# Altium integrated library Lattice FPGA MachXO2.IntLib: 444 symbols (part 34 of 39)
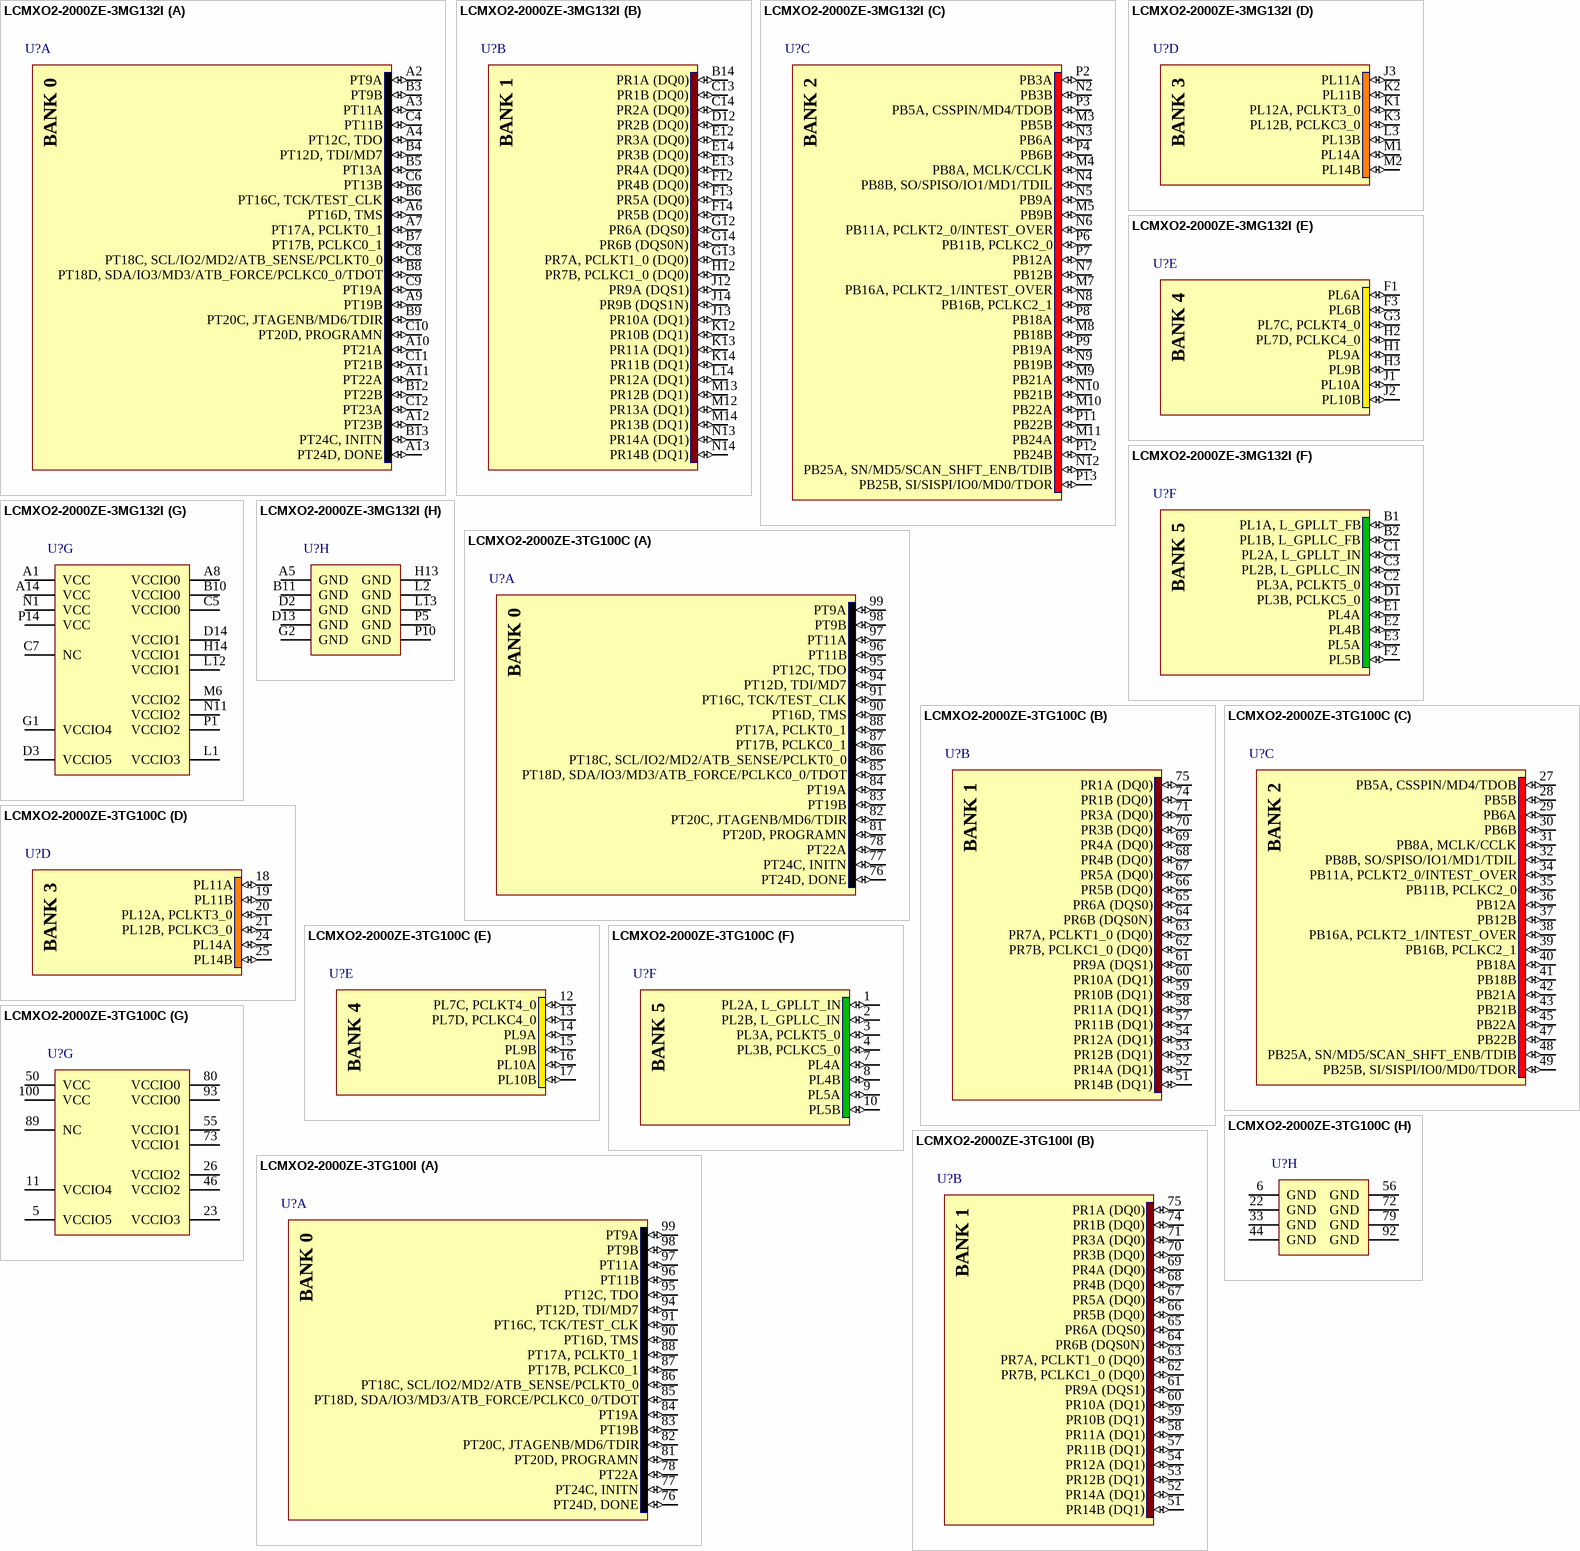
[diagram p439: symbols LCMXO2-2000ZE-3MG132I to LCMXO2-2000ZE-3TG100I]

## LCMXO2-2000ZE-3MG132I
designator U?
MachXO2 Ultra Low Power CPLD with 2112 LUTs, 1.2V, 132-pin csBGA, Speed Grade-3, Industrial Grade, Halogen Free (RoHS); DatasheetVersion: ver01.5, Aug-2011; PackageVersion: ver02.8, Jul-2011; PackageReference: csBGA132; PackageDescription: 132-Ball Chip Scale Ball Grid Array (csBGA132); ComponentLink1Description: Manufacturer URL; ComponentLink1URL: http://www.latticesemi.com/; ComponentLink2Description: Datasheet; ComponentLink2URL: http://www.latticesemi.com/documents/DS1035.pdf; ComponentLink3Description: Package Specification; ComponentLink3URL: http://www.latticesemi.com/lit/docs/package/pkg.pdf
footprint csBGA132 (BGA, 132-Leads, Body 8x8mm, Pitch 0.5mm)
part A pins: A2 PT9A (io), A3 PT11A (io), A4 PT12C, TDO (io), A6 PT16D, TMS (io), A7 PT17A, PCLKT0_1 (io), A9 PT19B (io), A10 PT21A (io), A11 PT22A (io), A12 PT23B (io), A13 PT24D, DONE (io), B3 PT9B (io), B4 PT12D, TDI/MD7 (io), B5 PT13A (io), B6 PT16C, TCK/TEST_CLK (io), B7 PT17B, PCLKC0_1 (io), B8 PT18D, SDA/IO3/MD3/ATB_FORCE/PCLKC0_0/TDOT (io), B9 PT20C, JTAGENB/MD6/TDIR (io), B12 PT22B (io), B13 PT24C, INITN (io), C4 PT11B (io), C6 PT13B (io), C8 PT18C, SCL/IO2/MD2/ATB_SENSE/PCLKT0_0 (io), C9 PT19A (io), C10 PT20D, PROGRAMN (io), C11 PT21B (io), C12 PT23A (io)
part B pins: B14 PR1A (DQ0) (io), C13 PR1B (DQ0) (io), C14 PR2A (DQ0) (io), D12 PR2B (DQ0) (io), E12 PR3A (DQ0) (io), E13 PR4A (DQ0) (io), E14 PR3B (DQ0) (io), F12 PR4B (DQ0) (io), F13 PR5A (DQ0) (io), F14 PR5B (DQ0) (io), G12 PR6A (DQS0) (io), G13 PR7A, PCLKT1_0 (DQ0) (io), G14 PR6B (DQS0N) (io), H12 PR7B, PCLKC1_0 (DQ0) (io), J12 PR9A (DQS1) (io), J13 PR10A (DQ1) (io), J14 PR9B (DQS1N) (io), K12 PR10B (DQ1) (io), K13 PR11A (DQ1) (io), K14 PR11B (DQ1) (io), L14 PR12A (DQ1) (io), M12 PR13A (DQ1) (io), M13 PR12B (DQ1) (io), M14 PR13B (DQ1) (io), N13 PR14A (DQ1) (io), N14 PR14B (DQ1) (io)
part C pins: M3 PB5B (io), M4 PB8A, MCLK/CCLK (io), M5 PB9B (io), M7 PB16A, PCLKT2_1/INTEST_OVER (io), M8 PB18B (io), M9 PB21A (io), M10 PB22A (io), M11 PB24A (io), N2 PB3B (io), N3 PB6A (io), N4 PB8B, SO/SPISO/IO1/MD1/TDIL (io), N5 PB9A (io), N6 PB11A, PCLKT2_0/INTEST_OVER (io), N7 PB12B (io), N8 PB16B, PCLKC2_1 (io), N9 PB19B (io), N10 PB21B (io), N12 PB25A, SN/MD5/SCAN_SHFT_ENB/TDIB (io), P2 PB3A (io), P3 PB5A, CSSPIN/MD4/TDOB (io), P4 PB6B (io), P6 PB11B, PCLKC2_0 (io), P7 PB12A (io), P8 PB18A (io), P9 PB19A (io), P11 PB22B (io), P12 PB24B (io), P13 PB25B, SI/SISPI/IO0/MD0/TDOR (io)
part D pins: J3 PL11A (io), K1 PL12A, PCLKT3_0 (io), K2 PL11B (io), K3 PL12B, PCLKC3_0 (io), L3 PL13B (io), M1 PL14A (io), M2 PL14B (io)
part E pins: F1 PL6A (io), F3 PL6B (io), G3 PL7C, PCLKT4_0 (io), H1 PL9A (io), H2 PL7D, PCLKC4_0 (io), H3 PL9B (io), J1 PL10A (io), J2 PL10B (io)
part F pins: B1 PL1A, L_GPLLT_FB (io), B2 PL1B, L_GPLLC_FB (io), C1 PL2A, L_GPLLT_IN (io), C2 PL3A, PCLKT5_0 (io), C3 PL2B, L_GPLLC_IN (io), D1 PL3B, PCLKC5_0 (io), E1 PL4A (io), E2 PL4B (io), E3 PL5A (io), F2 PL5B (io)
part G pins: A1 VCC (power), A8 VCCIO0 (power), A14 VCC (power), B10 VCCIO0 (power), C5 VCCIO0 (power), C7 NC, D3 VCCIO5 (power), D14 VCCIO1 (power), G1 VCCIO4 (power), H14 VCCIO1 (power), L1 VCCIO3 (power), L12 VCCIO1 (power), M6 VCCIO2 (power), N1 VCC (power), N11 VCCIO2 (power), P1 VCCIO2 (power), P14 VCC (power)
part H pins: A5 GND (power), B11 GND (power), D2 GND (power), D13 GND (power), G2 GND (power), H13 GND (power), L2 GND (power), L13 GND (power), P5 GND (power), P10 GND (power)
part A text: BANK 0
part B text: BANK 1
part C text: BANK 2
part D text: BANK 3
part E text: BANK 4
part F text: BANK 5

## LCMXO2-2000ZE-3TG100C
designator U?
MachXO2 Ultra Low Power CPLD with 2112 LUTs, 1.2V, 100-pin TQFP, Speed Grade-3, Commercial Grade, Halogen Free (RoHS); DatasheetVersion: ver01.5, Aug-2011; PackageVersion: ver02.8, Jul-2011; PackageReference: TQFP100; PackageDescription: 100-Pin Thin Quad Flat Pack (TQFP100); Code_JEDEC: MS-026-BED; ComponentLink1Description: Manufacturer URL; ComponentLink1URL: http://www.latticesemi.com/; ComponentLink2Description: Datasheet; ComponentLink2URL: http://www.latticesemi.com/documents/DS1035.pdf; ComponentLink3Description: Package Specification; ComponentLink3URL: http://www.latticesemi.com/lit/docs/package/pkg.pdf
footprint TQFP100_N (Thin QFP, 100-Leads, Body 14x14mm, Pitch 0.5mm, IPC Medium Density)
footprint TQFP100_L (Thin QFP, 100-Leads, Body 14x14mm, Pitch 0.5mm, IPC High Density)
footprint TQFP100_M (Thin QFP, 100-Leads, Body 14x14mm, Pitch 0.5mm, IPC Low Density)
part A pins: 76 PT24D, DONE (io), 77 PT24C, INITN (io), 78 PT22A (io), 81 PT20D, PROGRAMN (io), 82 PT20C, JTAGENB/MD6/TDIR (io), 83 PT19B (io), 84 PT19A (io), 85 PT18D, SDA/IO3/MD3/ATB_FORCE/PCLKC0_0/TDOT (io), 86 PT18C, SCL/IO2/MD2/ATB_SENSE/PCLKT0_0 (io), 87 PT17B, PCLKC0_1 (io), 88 PT17A, PCLKT0_1 (io), 90 PT16D, TMS (io), 91 PT16C, TCK/TEST_CLK (io), 94 PT12D, TDI/MD7 (io), 95 PT12C, TDO (io), 96 PT11B (io), 97 PT11A (io), 98 PT9B (io), 99 PT9A (io)
part B pins: 51 PR14B (DQ1) (io), 52 PR14A (DQ1) (io), 53 PR12B (DQ1) (io), 54 PR12A (DQ1) (io), 57 PR11B (DQ1) (io), 58 PR11A (DQ1) (io), 59 PR10B (DQ1) (io), 60 PR10A (DQ1) (io), 61 PR9A (DQS1) (io), 62 PR7B, PCLKC1_0 (DQ0) (io), 63 PR7A, PCLKT1_0 (DQ0) (io), 64 PR6B (DQS0N) (io), 65 PR6A (DQS0) (io), 66 PR5B (DQ0) (io), 67 PR5A (DQ0) (io), 68 PR4B (DQ0) (io), 69 PR4A (DQ0) (io), 70 PR3B (DQ0) (io), 71 PR3A (DQ0) (io), 74 PR1B (DQ0) (io), 75 PR1A (DQ0) (io)
part C pins: 27 PB5A, CSSPIN/MD4/TDOB (io), 28 PB5B (io), 29 PB6A (io), 30 PB6B (io), 31 PB8A, MCLK/CCLK (io), 32 PB8B, SO/SPISO/IO1/MD1/TDIL (io), 34 PB11A, PCLKT2_0/INTEST_OVER (io), 35 PB11B, PCLKC2_0 (io), 36 PB12A (io), 37 PB12B (io), 38 PB16A, PCLKT2_1/INTEST_OVER (io), 39 PB16B, PCLKC2_1 (io), 40 PB18A (io), 41 PB18B (io), 42 PB21A (io), 43 PB21B (io), 45 PB22A (io), 47 PB22B (io), 48 PB25A, SN/MD5/SCAN_SHFT_ENB/TDIB (io), 49 PB25B, SI/SISPI/IO0/MD0/TDOR (io)
part D pins: 18 PL11A (io), 19 PL11B (io), 20 PL12A, PCLKT3_0 (io), 21 PL12B, PCLKC3_0 (io), 24 PL14A (io), 25 PL14B (io)
part E pins: 12 PL7C, PCLKT4_0 (io), 13 PL7D, PCLKC4_0 (io), 14 PL9A (io), 15 PL9B (io), 16 PL10A (io), 17 PL10B (io)
part F pins: 1 PL2A, L_GPLLT_IN (io), 2 PL2B, L_GPLLC_IN (io), 3 PL3A, PCLKT5_0 (io), 4 PL3B, PCLKC5_0 (io), 7 PL4A (io), 8 PL4B (io), 9 PL5A (io), 10 PL5B (io)
part G pins: 5 VCCIO5 (power), 11 VCCIO4 (power), 23 VCCIO3 (power), 26 VCCIO2 (power), 46 VCCIO2 (power), 50 VCC (power), 55 VCCIO1 (power), 73 VCCIO1 (power), 80 VCCIO0 (power), 89 NC, 93 VCCIO0 (power), 100 VCC (power)
part H pins: 6 GND (power), 22 GND (power), 33 GND (power), 44 GND (power), 56 GND (power), 72 GND (power), 79 GND (power), 92 GND (power)
part A text: BANK 0
part B text: BANK 1
part C text: BANK 2
part D text: BANK 3
part E text: BANK 4
part F text: BANK 5

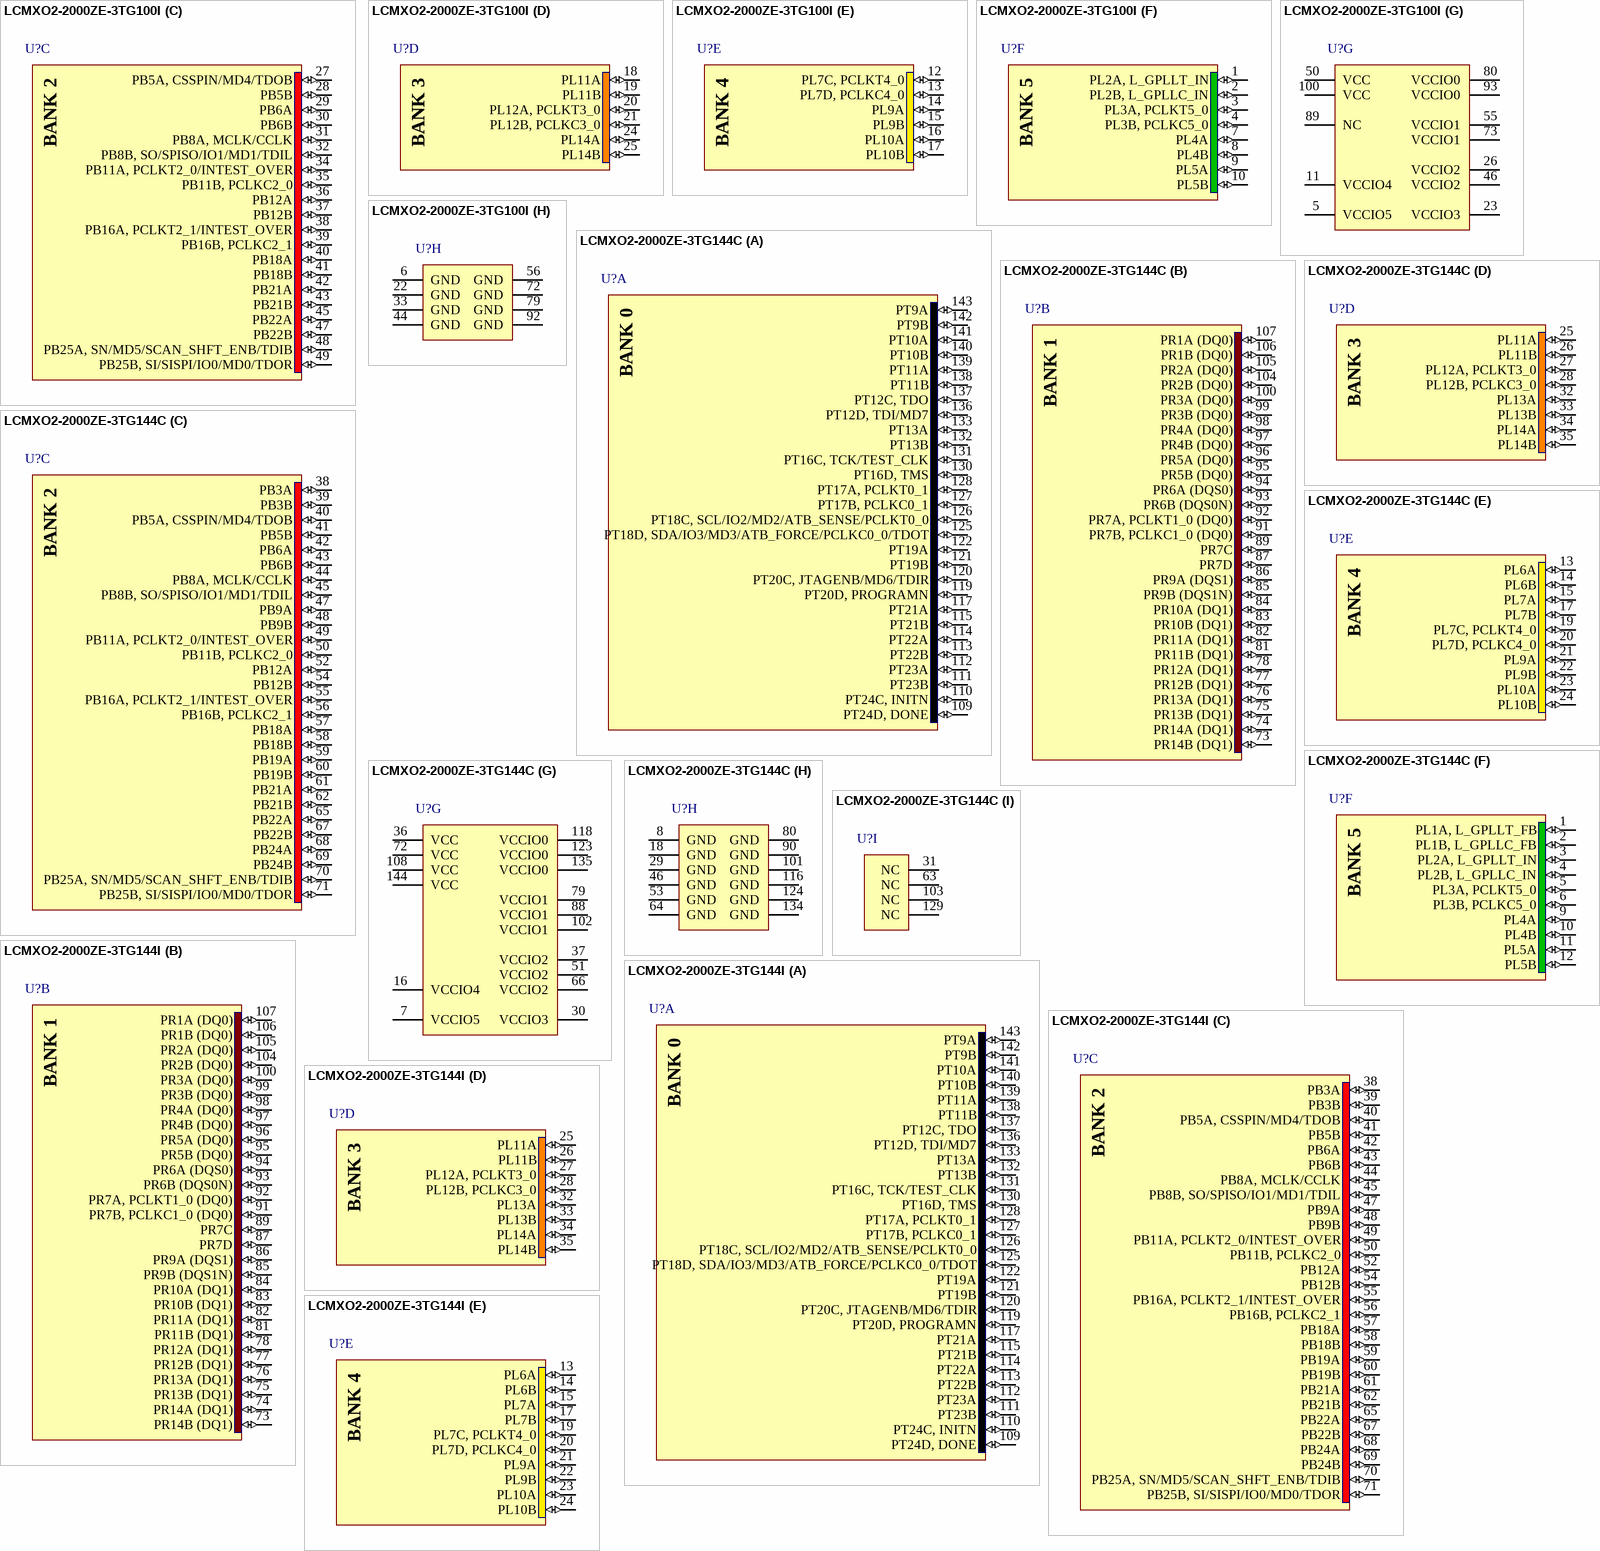
[diagram p135: symbols LCMXO2-2000ZE-3TG100I to LCMXO2-2000ZE-3TG144I]

## LCMXO2-2000ZE-3TG100I
designator U?
MachXO2 Ultra Low Power CPLD with 2112 LUTs, 1.2V, 100-pin TQFP, Speed Grade-3, Industrial Grade, Halogen Free (RoHS); DatasheetVersion: ver01.5, Aug-2011; PackageVersion: ver02.8, Jul-2011; PackageReference: TQFP100; PackageDescription: 100-Pin Thin Quad Flat Pack (TQFP100); Code_JEDEC: MS-026-BED; ComponentLink1Description: Manufacturer URL; ComponentLink1URL: http://www.latticesemi.com/; ComponentLink2Description: Datasheet; ComponentLink2URL: http://www.latticesemi.com/documents/DS1035.pdf; ComponentLink3Description: Package Specification; ComponentLink3URL: http://www.latticesemi.com/lit/docs/package/pkg.pdf
footprint TQFP100_N (Thin QFP, 100-Leads, Body 14x14mm, Pitch 0.5mm, IPC Medium Density)
footprint TQFP100_L (Thin QFP, 100-Leads, Body 14x14mm, Pitch 0.5mm, IPC High Density)
footprint TQFP100_M (Thin QFP, 100-Leads, Body 14x14mm, Pitch 0.5mm, IPC Low Density)
part A pins: 76 PT24D, DONE (io), 77 PT24C, INITN (io), 78 PT22A (io), 81 PT20D, PROGRAMN (io), 82 PT20C, JTAGENB/MD6/TDIR (io), 83 PT19B (io), 84 PT19A (io), 85 PT18D, SDA/IO3/MD3/ATB_FORCE/PCLKC0_0/TDOT (io), 86 PT18C, SCL/IO2/MD2/ATB_SENSE/PCLKT0_0 (io), 87 PT17B, PCLKC0_1 (io), 88 PT17A, PCLKT0_1 (io), 90 PT16D, TMS (io), 91 PT16C, TCK/TEST_CLK (io), 94 PT12D, TDI/MD7 (io), 95 PT12C, TDO (io), 96 PT11B (io), 97 PT11A (io), 98 PT9B (io), 99 PT9A (io)
part B pins: 51 PR14B (DQ1) (io), 52 PR14A (DQ1) (io), 53 PR12B (DQ1) (io), 54 PR12A (DQ1) (io), 57 PR11B (DQ1) (io), 58 PR11A (DQ1) (io), 59 PR10B (DQ1) (io), 60 PR10A (DQ1) (io), 61 PR9A (DQS1) (io), 62 PR7B, PCLKC1_0 (DQ0) (io), 63 PR7A, PCLKT1_0 (DQ0) (io), 64 PR6B (DQS0N) (io), 65 PR6A (DQS0) (io), 66 PR5B (DQ0) (io), 67 PR5A (DQ0) (io), 68 PR4B (DQ0) (io), 69 PR4A (DQ0) (io), 70 PR3B (DQ0) (io), 71 PR3A (DQ0) (io), 74 PR1B (DQ0) (io), 75 PR1A (DQ0) (io)
part C pins: 27 PB5A, CSSPIN/MD4/TDOB (io), 28 PB5B (io), 29 PB6A (io), 30 PB6B (io), 31 PB8A, MCLK/CCLK (io), 32 PB8B, SO/SPISO/IO1/MD1/TDIL (io), 34 PB11A, PCLKT2_0/INTEST_OVER (io), 35 PB11B, PCLKC2_0 (io), 36 PB12A (io), 37 PB12B (io), 38 PB16A, PCLKT2_1/INTEST_OVER (io), 39 PB16B, PCLKC2_1 (io), 40 PB18A (io), 41 PB18B (io), 42 PB21A (io), 43 PB21B (io), 45 PB22A (io), 47 PB22B (io), 48 PB25A, SN/MD5/SCAN_SHFT_ENB/TDIB (io), 49 PB25B, SI/SISPI/IO0/MD0/TDOR (io)
part D pins: 18 PL11A (io), 19 PL11B (io), 20 PL12A, PCLKT3_0 (io), 21 PL12B, PCLKC3_0 (io), 24 PL14A (io), 25 PL14B (io)
part E pins: 12 PL7C, PCLKT4_0 (io), 13 PL7D, PCLKC4_0 (io), 14 PL9A (io), 15 PL9B (io), 16 PL10A (io), 17 PL10B (io)
part F pins: 1 PL2A, L_GPLLT_IN (io), 2 PL2B, L_GPLLC_IN (io), 3 PL3A, PCLKT5_0 (io), 4 PL3B, PCLKC5_0 (io), 7 PL4A (io), 8 PL4B (io), 9 PL5A (io), 10 PL5B (io)
part G pins: 5 VCCIO5 (power), 11 VCCIO4 (power), 23 VCCIO3 (power), 26 VCCIO2 (power), 46 VCCIO2 (power), 50 VCC (power), 55 VCCIO1 (power), 73 VCCIO1 (power), 80 VCCIO0 (power), 89 NC, 93 VCCIO0 (power), 100 VCC (power)
part H pins: 6 GND (power), 22 GND (power), 33 GND (power), 44 GND (power), 56 GND (power), 72 GND (power), 79 GND (power), 92 GND (power)
part A text: BANK 0
part B text: BANK 1
part C text: BANK 2
part D text: BANK 3
part E text: BANK 4
part F text: BANK 5